# Altium schematic symbol library station_de_charge_SchLib.SchLib: 38 symbols
Pins are listed as number, name and electrical type; pins without a type are passive.

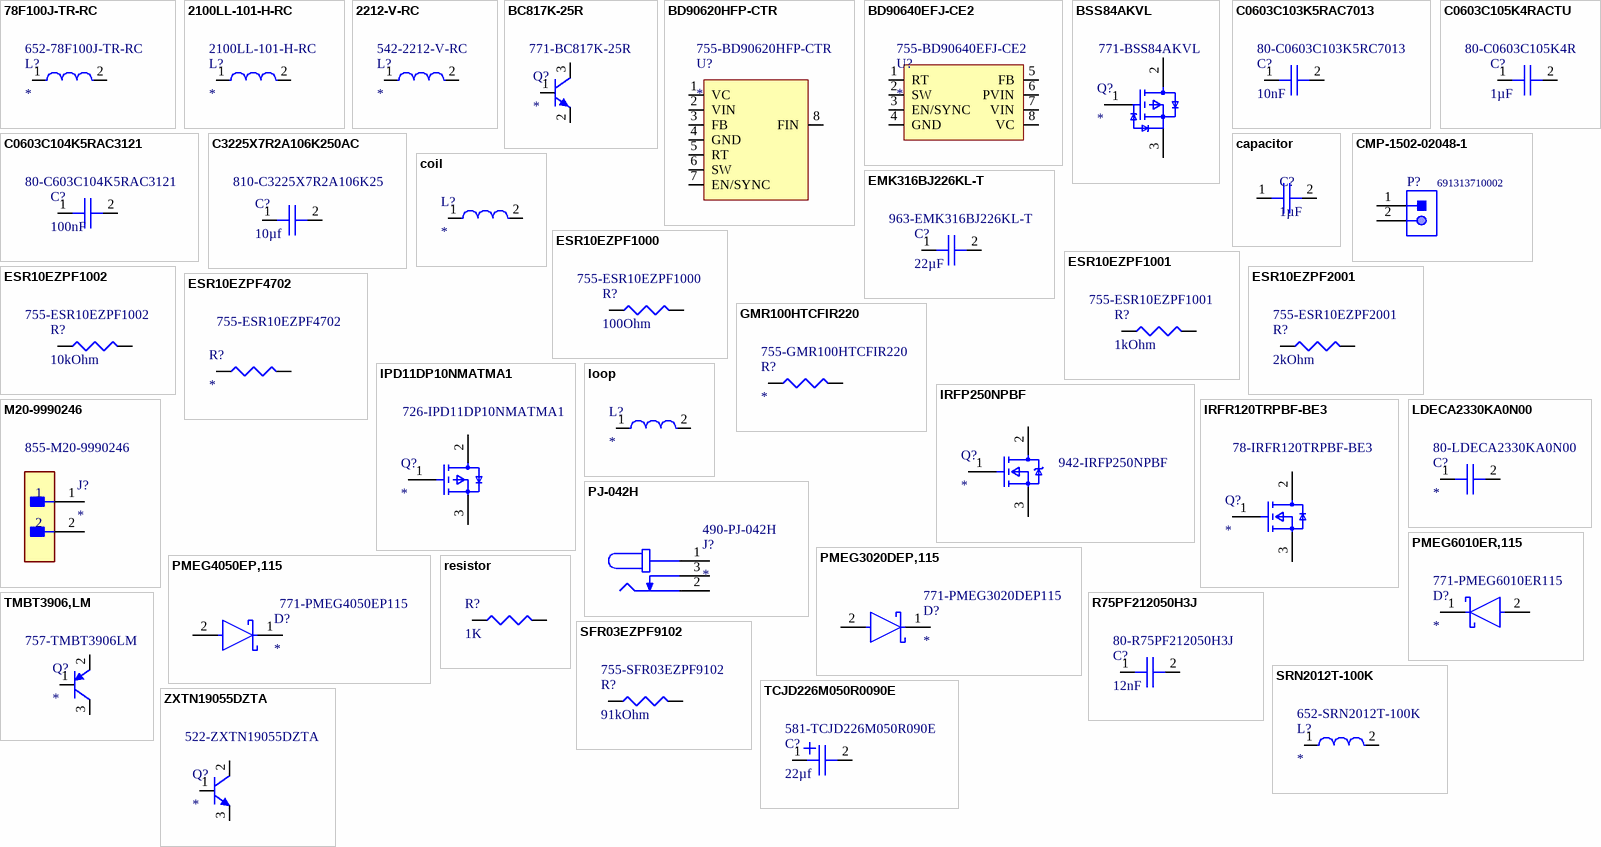
[diagram p0: symbols 78F100J-TR-RC to ZXTN19055DZTA]

## 78F100J-TR-RC
designator L?  Supplier Part Number 1: 652-78F100J-TR-RC
Ind RF Choke Bobbin Core 10uH 5% 7.9MHz 40Q-Factor Ferrite 370mA AXL T/R; Manufacturer: Bourns; Manufacturer Part Number: 78F100J-TR-RC; Shielding: Unshielded; DC Resistance (DCR): 750mR; Q Factor: 40; Lead/Base Style: Axial; Self Resonant Frequency: 18MHz; Lead Diameter: 0.51mm; Supplier 1: Mouser; RoHS: Yes; Category: Fixed Inductors; Stock 1: 31735; Pricing 1: 1=0,34000, 10=0,24500, 50=0,24500, 100=0,20000, 1000=0,14000, 10000=0,11800 (USD); Mount: Through Hole; Case/Package: Axial; Contact Plating: Tin; Core Material: Ferrite; Min Operating Temperature: -55°C; Max Operating Temperature: 105°C; Resistor Type: Wirewound; Inductance: 10uH; Test Frequency: 7.9MHz; Max DC Current: 370mA; Termination: Axial; DC Current: 370mA; Tolerance: 5%; Packaging: Tape and Reel; Package Quantity: 5000; Current Rating: 370mA; Diameter: 2.79mm; Length: 7.11mm; Radiation Hardening: No; Military Standard: Not; ComponentLink1URL: https://datasheet.ciiva.com/15161/getdatasheetpartid-486343-15161381.pdf?src-supplier=Verical; ComponentLink1Description: https://datasheet.ciiva.com/15161/getdatasheetpartid-486343-15161381.pdf?src-supplier=Verical; ComponentLink2URL: https://datasheet.ciiva.com/6703/78f-series-6703431.pdf?src-supplier=Digi-Key; ComponentLink2Description: https://datasheet.ciiva.com/6703/78f-series-6703431.pdf?src-supplier=Digi-Key
pins: 1, 2

## 2100LL-101-H-RC
designator L?  Supplier Part Number 1: 2100LL-101-H-RC
Inductor High Current Toroid 100uH/46.2uH 15% 1KHz 4.3A 0.036Ohm DCR RDL; Manufacturer: Bourns JW Miller; Shielding: Unshielded; Inductance: 100uH; DC Resistance (DCR): 36mR; Lead/Base Style: Radial; Lead Length: 12.7mm; Supplier 1: Arrow Electronics; Manufacturer Part Number: 2100LL-101-H-RC; RoHS: Yes; Category: Fixed Inductors; Stock 1: 7; Pricing 1: 1=3,04520, 10=2,91760, 25=2,65420, 100=2,31960, 288=2,30000, 576=2,21150, 1008=1,97340, 2592=1,92170, 5040=1,89520 (USD); Mount: Through Hole; Case/Package: Radial; Contact Plating: Tin; Min Operating Temperature: -55°C; Max Operating Temperature: 125°C; Inductance Tolerance: 15%; Package Quantity: 144; Packaging: Bulk; Tolerance: 15%; Current Rating: 4.3A; Max DC Current: 4.3A; Termination: Radial; Test Frequency: 1kHz; DC Current: 4.3A; RMS Current (Irms): 4.3A; Series: 2100LL; Width: 0.45inch; Height: 0.45inch; Lead Pitch: 19.3mm; Radiation Hardening: No; REACH SVHC: No SVHC; Military Standard: Not; Lead Free: Lead Free; RoHS Compliant: Yes; ComponentLink1URL: https://datasheet.ciiva.com/1132/1482709-1132517.pdf?src-supplier=Newark; ComponentLink1Description: https://datasheet.ciiva.com/1132/1482709-1132517.pdf?src-supplier=Newark; ComponentLink2URL: https://datasheet.ciiva.com/6710/2100ll-series-6710280.pdf?src-supplier=Digi-Key; ComponentLink2Description: https://datasheet.ciiva.com/6710/2100ll-series-6710280.pdf?src-supplier=Digi-Key
pins: 1, 2

## 2212-V-RC
designator L?  Supplier Part Number 1: 542-2212-V-RC
Inductor High Current Toroid 100uH/64uH 15% 1KHz 4.4A 56mOhm DCR RDL; Manufacturer: Bourns JW Miller; Manufacturer Part Number: 2212-V-RC; Core Material: Ferrite; Lead/Base Style: Radial; Inductance: 100uH; Shielding: Shielded; DC Resistance (DCR): 56mR; Lead Diameter: 0.86mm; Supplier 1: Mouser; RoHS: Yes; Category: Fixed Inductors; Stock 1: 1501; Pricing 1: 1=4,88000, 10=4,48000, 50=3,72000, 100=2,93000, 1000=2,93000, 10000=2,93000 (USD); Mount: Through Hole,Radial; Case/Package: Radial; Number of Pins: 2; Contact Plating: Tin; Min Operating Temperature: -55°C; Max Operating Temperature: 105°C; Tolerance: 15%; Test Frequency: 1kHz; Inductance Tolerance: 15%; Current Rating: 4.4A; Package Quantity: 77; Packaging: Bulk; Max DC Current: 4.4A; Termination: Radial; DC Current: 4.4A; RMS Current (Irms): 4.4A; Series: 2200; Diameter: 0.95inch; Width: 0.55inch; Lead Pitch: 11.176mm; Height - Seated (Max): 0.55inch; Depth: 13.97mm; Radiation Hardening: No; REACH SVHC: No SVHC; Military Standard: Not; Lead Free: Lead Free; RoHS Compliant: Yes; ComponentLink1URL: https://datasheet.ciiva.com/11798/0900766b80fa5688-11798051.pdf?src-supplier=RSComponents; ComponentLink1Description: https://datasheet.ciiva.com/11798/0900766b80fa5688-11798051.pdf?src-supplier=RSComponents; ComponentLink2URL: https://datasheet.ciiva.com/6690/2200-series-6690646.pdf?src-supplier=Digi-Key; ComponentLink2Description: https://datasheet.ciiva.com/6690/2200-series-6690646.pdf?src-supplier=Digi-Key; ComponentLink3URL: https://datasheet.ciiva.com/28654/2200-series-28654982.pdf?src-supplier=Element14; ComponentLink3Description: https://datasheet.ciiva.com/28654/2200-series-28654982.pdf?src-supplier=Element14; ComponentLink4URL: https://datasheet.ciiva.com/3076/2200-series-3076522.pdf?src-supplier=Avnet; ComponentLink4Description: https://datasheet.ciiva.com/3076/2200-series-3076522.pdf?src-supplier=Avnet
footprint IND_HCTI-220-5.8
pins: 1, 2

## BC817K-25R
designator Q?  Supplier Part Number 1: 771-BC817K-25R
BC817K-25H/SOT23/TO-236AB; Manufacturer: Nexperia; Manufacturer Part Number: BC817K-25R; Supplier 1: Mouser; RoHS: No; Category: BJTs; Stock 1: 50401; Pricing 1: 1=0,24000, 10=0,19900, 50=0,19900, 100=0,10600, 1000=0,04800, 10000=0,03100 (USD); RoHS Compliant: Yes
footprint SOT95P230X110-3N
pins: 1 B, 2 E, 3 C

## BD90620HFP-CTR
designator U?  Supplier Part Number 1: 755-BD90620HFP-CTR
Switching Regulator Step Down Single Channel 2.5A 600KHz 0.8V to 36V Adjustable 7-Pin HRP Emboss T/R; Manufacturer: Rohm; Manufacturer Part Number: BD90620HFP-CTR; Output Configuration: Positive; Number of Outputs: 1; Min Input Voltage: 5V; Min Output Voltage: 800mV; Switching Frequency: 500kHz; Synchronous Rectifier: No; Supplier 1: Mouser; RoHS: Yes; Category: Voltage Regulators - Switching; Stock 1: 52; Pricing 1: 1=3,82000, 10=3,43000, 50=3,25000, 100=2,81000, 1000=2,04000, 10000=2,03000 (USD); Mount: Surface Mount; Case/Package: TO-263-8; Min Operating Temperature: -40°C; Max Operating Temperature: 125°C; Output Type: Adjustable; Packaging: Tape and Reel; Max Input Voltage: 36V; Max Output Voltage: 36V; Output Current: 2.5A; RoHS Compliant: Yes; ComponentLink1URL: http://rohmfs.rohm.com/en/products/databook/datasheet/ic/power/switching_regulator/bd906xxefj-c-e.pdf?src-supplier=Digi-Key; ComponentLink1Description: http://rohmfs.rohm.com/en/products/databook/datasheet/ic/power/switching_regulator/bd906xxefj-c-e.pdf?src-supplier=Digi-Key
footprint IC_BTN7960B
pins: 1 VC, 2 VIN, 3 FB, 4 GND, 5 RT, 6 SW, 7 EN/SYNC, 8 FIN

## BD90640EFJ-CE2
designator U?  Supplier Part Number 1: 755-BD90640EFJ-CE2
Conv DC-DC 3.5V to 36V Step Down Single-Out 0.8V to 36V Automotive 8-Pin HTSOP-J EP T/R; Manufacturer: Rohm; Manufacturer Part Number: BD90640EFJ-CE2; Number of Outputs: 1; Max Output Current: 4A; Switching Frequency: 600kHz; Supplier 1: Mouser; RoHS: Yes; Category: Voltage Regulators - Switching; Stock 1: 447; Pricing 1: 1=2,33000, 10=2,10000, 25=1,98000, 50=1,98000, 100=1,69000, 250=1,58000, 500=1,39000, 1000=1,28000, 2500=1,27000, 10000=1,27000 (USD); Mount: Surface Mount; Number of Pins: 8; Min Operating Temperature: -40°C; Max Operating Temperature: 125°C; Output Voltage: 36V; Min Input Voltage: 3.5V; Max Input Voltage: 36V; Operating Supply Voltage: 36V; RoHS Compliant: Yes; ComponentLink1URL: http://rohmfs.rohm.com/en/products/databook/datasheet/ic/power/switching_regulator/bd906xxefj-c-e.pdf?src-supplier=Avnet; ComponentLink1Description: http://rohmfs.rohm.com/en/products/databook/datasheet/ic/power/switching_regulator/bd906xxefj-c-e.pdf?src-supplier=Avnet
pins: 1 RT, 2 SW, 3 EN/SYNC, 4 GND, 5 FB, 6 PVIN, 7 VIN, 8 VC

## BSS84AKVL
designator Q?  Supplier Part Number 1: 771-BSS84AKVL
BSS84AKV/SOT666/SOT6; Manufacturer: Nexperia; Manufacturer Part Number: BSS84AKVL; Supplier 1: Mouser; RoHS: Yes; Stock 1: 4944; Pricing 1: 1=0,24000, 10=0,20200, 50=0,20200, 100=0,10800, 500=0,07100, 1000=0,04800, 2500=0,03800, 10000=0,03100 (USD); RoHS Compliant: Yes
footprint SOT95P230X110-3N
pins: 1 GATE, 2 DRAIN, 3 SOURCE

## C0603C103K5RAC7013
designator C?, comment 10nF  Supplier Part Number 1: 80-C0603C103K5RC7013
Cap Ceramic 0.01uF 50V X7R 10% Pad SMD 0603 125C T/R; Manufacturer: KEMET; Manufacturer Part Number: C0603C103K5RAC7013; Supplier 1: Mouser; RoHS: Yes; Category: Ceramic Capacitors; Stock 1: 21368; Pricing 1: 1=0,13000, 10=0,05100, 50=0,05100, 100=0,04300, 500=0,03000, 1000=0,02500, 2000=0,02300, 4000=0,02000, 10000=0,02000 (USD); Mount: Surface Mount; Case/Package: 0603; Dielectric Material: Ceramic; Min Operating Temperature: -55°C; Max Operating Temperature: 125°C; Dielectric: X7R; Capacitance: 10nF; Tolerance: 10%; Voltage Rating (DC): 50V; Packaging: Tape and Reel; Package Quantity: 4000; Voltage Rating: 50V; Length: 1.6mm; Width: 0.031inch; Height: 0.8mm; Depth: 0.8mm; Thickness: 0.035inch; Radiation Hardening: No; ComponentLink1URL: http://components.arrow.com/part/dataview/5297356S5600630N7429?src-supplier=Arrow+Electronics; ComponentLink1Description: http://components.arrow.com/part/dataview/5297356S5600630N7429?src-supplier=Arrow+Electronics; ComponentLink2URL: https://www.distrelec.biz/Web/Downloads/_t/ds/KEM_C1002_X7R_SMD_eng_tds.pdf?mime=application%2Fpdf&src-supplier=Distrelec; ComponentLink2Description: https://www.distrelec.biz/Web/Downloads/_t/ds/KEM_C1002_X7R_SMD_eng_tds.pdf?mime=application%2Fpdf&src-supplier=Distrelec; ComponentLink3URL: https://api.kemet.com/component-edge/download/datasheet/C0603C103K5RAC7013.pdf?src-supplier=Digi-Key; ComponentLink3Description: https://api.kemet.com/component-edge/download/datasheet/C0603C103K5RAC7013.pdf?src-supplier=Digi-Key
footprint FP-C0603C104K5RAC3121-IPC_A
pins: 1, 2

## C0603C104K5RAC3121
designator C?, comment 100nF  Supplier Part Number 1: 80-C603C104K5RAC3121
Cap Ceramic 0.1uF 50V X7R 10% Pad SMD 0603 125°C T/R; Manufacturer: KEMET; Manufacturer Part Number: C0603C104K5RAC3121; RoHS: Yes; Category: Ceramic Capacitors; Stock 1: 3306727; Pricing 1: 1=0,13000, 10=0,09200, 50=0,09200, 100=0,04300, 1000=0,02500, 10000=0,01900 (USD); Case/Package: 0603; RoHS Compliant: Yes; Supplier 1: Mouser
footprint FP-C0603C104K5RAC3121-IPC_A
pins: 1, 2

## C0603C105K4RACTU
designator C?, comment 1µF  Supplier Part Number 1: 80-C0603C105K4R
Cap Ceramic 1uF 16V X7R 10% SMD 0603 125°C Paper T/R; Manufacturer: KEMET; Manufacturer Part Number: C0603C105K4RACTU; Dissipation Factor: 3.5%; RoHS: Yes; Category: Ceramic Capacitors; Stock 1: 3280807; Pricing 1: 1=0,17000, 10=0,08000, 50=0,08000, 100=0,03600, 500=0,02600, 1000=0,02000, 2000=0,01900, 4000=0,01600, 8000=0,01400, 10000=0,01400 (USD); Mount: Surface Mount,PCB; Case/Package: 0603; Number of Pins: 2; Case Code (Metric): 1608; Case Code (Imperial): 0603; Contact Plating: Tin,Matte; Dielectric Material: Ceramic; Min Operating Temperature: -55°C; Max Operating Temperature: 125°C; Package Quantity: 4000; Capacitance: 1uF; Voltage Rating: 16V; Tolerance: 10%; Packaging: Tape and Reel; Voltage Rating (DC): 16V; Dielectric: X7R; Termination: SMD/SMT; Voltage: 16V; Series: C0603C; Construction: Flat; Length: 1.6mm; Width: 0.031inch; Height: 0.8mm; Thickness: 0.034inch; Depth: 0.8mm; Radiation Hardening: No; REACH SVHC: No SVHC; RoHS Compliant: Yes; ComponentLink1URL: https://datasheet.ciiva.com/7823/kem-c1002-x7r-smd-7823997.pdf?src-supplier=Element14; ComponentLink1Description: https://datasheet.ciiva.com/7823/kem-c1002-x7r-smd-7823997.pdf?src-supplier=Element14; ComponentLink2URL: https://datasheet.ciiva.com/22749/kem-c1002-x7r-smd-22749721.pdf?src-supplier=Element14; ComponentLink2Description: https://datasheet.ciiva.com/22749/kem-c1002-x7r-smd-22749721.pdf?src-supplier=Element14; ComponentLink3URL: https://datasheet.ciiva.com/5419/kem-c1002-x7r-smd-5419750.pdf?src-supplier=Mouser; ComponentLink3Description: https://datasheet.ciiva.com/5419/kem-c1002-x7r-smd-5419750.pdf?src-supplier=Mouser; ComponentLink4URL: https://datasheet.ciiva.com/18192/getdatasheetpartid-385479-18192732.pdf?src-supplier=Verical; ComponentLink4Description: https://datasheet.ciiva.com/18192/getdatasheetpartid-385479-18192732.pdf?src-supplier=Verical; Supplier 1: Mouser
footprint CAPC1608X90X35NL15T15 (Chip Capacitor, 2-Leads, Body 1.60x0.81mm, IPC Medium Density)
pins: 1, 2

## C3225X7R2A106K250AC
designator C?, comment 10µf  Supplier Part Number 1: 810-C3225X7R2A106K25
Multilayer Ceramic Chip Capacitors, Capacitance=10μF, LxWxT: 3.2x2.5x2.5mm; Manufacturer: TDK; Manufacturer Part Number: C3225X7R2A106K250AC; Supplier 1: Mouser; RoHS: No; Stock 1: 11549; Pricing 1: 1=1,50000, 10=1,19000, 50=1,19000, 100=0,89100, 1000=0,72000, 10000=0,72000 (USD)
footprint CAPC3225X280N
pins: 1, 2

## capacitor
designator C?, comment 1µF
pins: 1, 2

## CMP-1502-02048-1
designator P?, comment 691313710002
Serie 3137 - 5.00mm Close Horizontal PCB Header WR-TBL, 2 pin; Manufacturer: Wurth Elektronik; Gender: Male; Pin Number: 2; Operating Temperature: -40to105degC; Manufacturer URL: http://www.we-online.de; Mounting Technology: THT; Package Reference: 691313710002; Part Number: 691313710002; Publisher: WurthElektronik; Packaging: Box; Datasheet URL: http://katalog.we-online.de/em/datasheet/6913137100xx.pdf; Pitch: 5.00mm
footprint 691313710002 (5.00mm - Closed Horizhontal PCB Header - -02p)
pins: 1, 2

## coil
designator L?
pins: 1, 2

## EMK316BJ226KL-T
designator C?, comment 22µF  Supplier Part Number 1: 963-EMK316BJ226KL-T
Cap Ceramic 22uF 16V X7R 10% SMD 0805 125°C Paper T/R; Manufacturer: Taiyo Yuden; Manufacturer Part Number: EMK316BJ226KL-T; Dielectric: X5R; RoHS: Yes; Category: Ceramic Capacitors; Stock 1: 61956; Pricing 1: 1=0,47000, 10=0,34700, 50=0,34700, 100=0,24600, 1000=0,17300, 10000=0,15000 (USD); Mount: Surface Mount; Case/Package: 1206; Case Code (Imperial): 1206; Case Code (Metric): 3216; Min Operating Temperature: -55°C; Max Operating Temperature: 85°C; Tolerance: 10%; Packaging: Tape and Reel; Voltage Rating: 16V; Capacitance: 22uF; Voltage Rating (DC): 16V; Package Quantity: 2000; Termination: SMD/SMT; Resistor Type: Ceramic; Series: M; Construction: Flat; Length: 0.126inch; Width: 1.6mm; Height: 1.6mm; Thickness: 0.071inch; RoHS Compliant: Yes; ComponentLink1URL: https://datasheet.ciiva.com/30123/emultilayer-ceramic-capacitor-30123646.pdf?src-supplier=Onlinecomponents.com; ComponentLink1Description: https://datasheet.ciiva.com/30123/emultilayer-ceramic-capacitor-30123646.pdf?src-supplier=Onlinecomponents.com; Supplier 1: Mouser
footprint CAPC3216X180N
pins: 1, 2

## ESR10EZPF1000
designator R?, comment 100Ohm  Supplier Part Number 1: 755-ESR10EZPF1000
Res Thick Film 0805 100 Ohm 1% 2/5W ±100ppm/°C Molded SMD Paper T/R; Manufacturer: Rohm; Manufacturer Part Number: ESR10EZPF1000; Resistance: 100R; Max Power Dissipation: 400mW; RoHS: Yes; Category: Chip SMD Resistors; Stock 1: 17116; Pricing 1: 1=0,18000, 10=0,15300, 50=0,15300, 100=0,06000, 1000=0,02600, 10000=0,02000 (USD); Case/Package: 0805; Case Code (Imperial): 0805; Case Code (Metric): 2012; Min Operating Temperature: -55°C; Max Operating Temperature: 155°C; Resistor Type: Thick Film; Packaging: Tape and Reel; Tolerance: 1%; Temperature Coefficient: 100ppm/°C; Features: Automotive AEC-Q200; Number of Terminations: 2; Series: ESR; RoHS Compliant: Yes; ComponentLink1URL: http://www.farnell.com/datasheets/2611941.pdf?src-supplier=Farnell; ComponentLink1Description: http://www.farnell.com/datasheets/2611941.pdf?src-supplier=Farnell; ComponentLink2URL: https://www.rohm.com/datasheet/ESR01MZPF/esr-e?src-supplier=Digi-Key; ComponentLink2Description: https://www.rohm.com/datasheet/ESR01MZPF/esr-e?src-supplier=Digi-Key; ComponentLink3URL: http://www.farnell.com/datasheets/2611941.pdf?src-supplier=Newark; ComponentLink3Description: http://www.farnell.com/datasheets/2611941.pdf?src-supplier=Newark; ComponentLink4URL: http://rohmfs.rohm.com/en/products/databook/datasheet/passive/resistor/chip_resistor/esr.pdf?src-supplier=Avnet; ComponentLink4Description: http://rohmfs.rohm.com/en/products/databook/datasheet/passive/resistor/chip_resistor/esr.pdf?src-supplier=Avnet; Supplier 1: Mouser
footprint FP-ESR10-IPC_A
pins: 1, 2

## ESR10EZPF1001
designator R?, comment 1kOhm  Supplier Part Number 1: 755-ESR10EZPF1001
Res Thick Film 0805 1K Ohm 1% 0.4W ±100ppm/C Epoxy Resin Pad SMD Automotive T/R; Manufacturer: Rohm; Manufacturer Part Number: ESR10EZPF1001; Resistance: 1kR; Temperature Coefficient: 100ppm/°C; Power Rating: 400mW; RoHS: Yes; Category: Chip SMD Resistors; Stock 1: 27313; Pricing 1: 1=0,18000, 10=0,15300, 50=0,15300, 100=0,06000, 1000=0,02600, 10000=0,02000 (USD); Case/Package: 0805; Case Code (Metric): 2012; Case Code (Imperial): 0805; Size Code: 0805; Min Operating Temperature: -55°C; Max Operating Temperature: 155°C; Tolerance: 1%; Packaging: Tape and Reel; Resistor Type: Thick Film; Package Quantity: 1; Number of Terminations: 2; Max Power Dissipation: 400mW; Features: Automotive AEC-Q200; Series: ESR; Length: 0.079inch; Width: 0.049inch; Height: 0.026inch; Lead Free: Lead Free; RoHS Compliant: Yes; ComponentLink1URL: https://datasheet.ciiva.com/2470/esr-2470004.pdf?src-supplier=Digi-Key; ComponentLink1Description: https://datasheet.ciiva.com/2470/esr-2470004.pdf?src-supplier=Digi-Key; ComponentLink2URL: https://datasheet.ciiva.com/2470/esr-2470005.pdf?src-supplier=Digi-Key; ComponentLink2Description: https://datasheet.ciiva.com/2470/esr-2470005.pdf?src-supplier=Digi-Key; ComponentLink3URL: https://datasheet.ciiva.com/2470/esr-2470003.pdf?src-supplier=Digi-Key; ComponentLink3Description: https://datasheet.ciiva.com/2470/esr-2470003.pdf?src-supplier=Digi-Key; Supplier 1: Mouser
footprint FP-ESR10-IPC_A
pins: 1, 2

## ESR10EZPF1002
designator R?, comment 10kOhm  Supplier Part Number 1: 755-ESR10EZPF1002
Res Thick Film 0805 10K Ohm 1% 0.4W ±100ppm/C Pad SMD Automotive T/R; Manufacturer: Rohm; Manufacturer Part Number: ESR10EZPF1002; Resistance: 10kR; Max Power Dissipation: 400mW; Temperature Coefficient: 100ppm/°C; RoHS: Yes; Category: Chip SMD Resistors; Stock 1: 82018; Pricing 1: 1=0,18000, 10=0,15300, 50=0,15300, 100=0,06000, 1000=0,02600, 2500=0,02300, 5000=0,02000, 10000=0,02000 (USD); Case/Package: 0805; Case Code (Metric): 2012; Case Code (Imperial): 0805; Min Operating Temperature: -55°C; Max Operating Temperature: 155°C; Package Quantity: 1; Tolerance: 1%; Packaging: Tape and Reel; Resistor Type: Thick Film; Number of Terminations: 2; Features: Automotive AEC-Q200; Series: ESR; Length: 0.079inch; Width: 0.049inch; Height: 0.026inch; RoHS Compliant: Yes; ComponentLink1URL: https://datasheet.ciiva.com/2469/esr-2469862.pdf?src-supplier=Digi-Key; ComponentLink1Description: https://datasheet.ciiva.com/2469/esr-2469862.pdf?src-supplier=Digi-Key; ComponentLink2URL: https://datasheet.ciiva.com/2469/esr-2469863.pdf?src-supplier=Digi-Key; ComponentLink2Description: https://datasheet.ciiva.com/2469/esr-2469863.pdf?src-supplier=Digi-Key; ComponentLink3URL: https://datasheet.ciiva.com/2469/esr-2469864.pdf?src-supplier=Digi-Key; ComponentLink3Description: https://datasheet.ciiva.com/2469/esr-2469864.pdf?src-supplier=Digi-Key; Supplier 1: Mouser
footprint FP-ESR10-IPC_A
pins: 1, 2

## ESR10EZPF2001
designator R?, comment 2kOhm  Supplier Part Number 1: 755-ESR10EZPF2001
Res Thick Film 0805 2K Ohm 1% 2/5W ±100ppm/°C Molded SMD Paper T/R; Manufacturer: Rohm; Manufacturer Part Number: ESR10EZPF2001; Resistance: 2kR; Power Rating: 400mW; Supplier 1: Mouser; RoHS: Yes; Category: Chip SMD Resistors; Stock 1: 82201; Pricing 1: 1=0,18000, 10=0,15300, 50=0,15300, 100=0,06000, 1000=0,02600, 10000=0,02000 (USD); Case/Package: 0805; Case Code (Metric): 2012; Case Code (Imperial): 0805; Size Code: 0805; Tolerance: 1%; Packaging: Tape and Reel; Resistor Type: Thick Film; Temperature Coefficient: 100ppm/°C; Package Quantity: 5000; Number of Terminations: 2; Max Power Dissipation: 400mW; Series: ESR10; Length: 0.079inch; Width: 0.049inch; Height: 0.026inch; Lead Free: Lead Free; RoHS Compliant: Yes; ComponentLink1URL: http://www1.futureelectronics.com/doc/ROHM%20SEMICONDUCTOR/ESR10EZPD.pdf?src-supplier=Future+Electronics; ComponentLink1Description: http://www1.futureelectronics.com/doc/ROHM%20SEMICONDUCTOR/ESR10EZPD.pdf?src-supplier=Future+Electronics; ComponentLink2URL: https://www.rohm.com/datasheet/ESR01MZPF/esr-e?src-supplier=Digi-Key; ComponentLink2Description: https://www.rohm.com/datasheet/ESR01MZPF/esr-e?src-supplier=Digi-Key; ComponentLink3URL: http://www.rohm.com/web/global/datasheet/ESR01MZPF/esr-e?src-supplier=Digi-Key; ComponentLink3Description: http://www.rohm.com/web/global/datasheet/ESR01MZPF/esr-e?src-supplier=Digi-Key; ComponentLink4URL: http://rohmfs.rohm.com/en/products/databook/datasheet/passive/resistor/chip_resistor/esr.pdf?src-supplier=Avnet; ComponentLink4Description: http://rohmfs.rohm.com/en/products/databook/datasheet/passive/resistor/chip_resistor/esr.pdf?src-supplier=Avnet
footprint FP-ESR10-IPC_A
pins: 1, 2

## ESR10EZPF4702
designator R?  Supplier Part Number 1: 755-ESR10EZPF4702
Res Thick Film 0805 47K Ohm 1% 0.4W ±100ppm/C Pad SMD Automotive T/R; Manufacturer: Rohm; Manufacturer Part Number: ESR10EZPF4702; Resistance: 47kR; Temperature Coefficient: 100ppm/°C; Max Power Dissipation: 400mW; Supplier 1: Mouser; RoHS: Yes; Category: Chip SMD Resistors; Stock 1: 31570; Pricing 1: 1=0,18000, 10=0,15300, 50=0,15300, 100=0,06000, 1000=0,02600, 2500=0,02300, 5000=0,02000, 10000=0,02000 (USD); Case/Package: 0805; Case Code (Metric): 2012; Case Code (Imperial): 0805; Min Operating Temperature: -55°C; Max Operating Temperature: 155°C; Tolerance: 1%; Packaging: Tape and Reel; Resistor Type: Thick Film; Package Quantity: 1; Number of Terminations: 2; Features: Automotive AEC-Q200; Series: ESR; Length: 0.079inch; Width: 0.049inch; Height: 0.026inch; RoHS Compliant: Yes; ComponentLink1URL: https://datasheet.ciiva.com/2469/esr-2469981.pdf?src-supplier=Digi-Key; ComponentLink1Description: https://datasheet.ciiva.com/2469/esr-2469981.pdf?src-supplier=Digi-Key; ComponentLink2URL: https://datasheet.ciiva.com/2469/esr-2469979.pdf?src-supplier=Digi-Key; ComponentLink2Description: https://datasheet.ciiva.com/2469/esr-2469979.pdf?src-supplier=Digi-Key; ComponentLink3URL: https://datasheet.ciiva.com/2469/esr-2469980.pdf?src-supplier=Digi-Key; ComponentLink3Description: https://datasheet.ciiva.com/2469/esr-2469980.pdf?src-supplier=Digi-Key
footprint FP-ESR10-IPC_A
pins: 1, 2

## GMR100HTCFIR220
designator R?  Supplier Part Number 1: 755-GMR100HTCFIR220
Res Current Sense Metal Plate 2512 0.1 Ohm 1% 3W ±20ppm/°C Molded Emboss T/R; Manufacturer: Rohm; Manufacturer Part Number: GMR100HTCFIR220; Resistance: 220mR; Supplier 1: Mouser; RoHS: No; Category: Chip SMD Resistors; Stock 1: 10040; Pricing 1: 1=1,30000, 10=1,16000, 50=1,05000, 100=1,05000, 1000=1,05000, 10000=1,05000 (USD); Case/Package: 2512; Case Code (Imperial): 2512; Case Code (Metric): 6432; Min Operating Temperature: -55°C; Max Operating Temperature: 170°C; Resistor Type: Metal Element; Features: Automotive AEC-Q200; Packaging: Tape and Reel; Tolerance: 1%; Max Power Dissipation: 3W; Temperature Coefficient: 20ppm/°C; Number of Terminations: 2; ComponentLink1URL: http://www.farnell.com/datasheets/2372626.pdf?src-supplier=Farnell; ComponentLink1Description: http://www.farnell.com/datasheets/2372626.pdf?src-supplier=Farnell; ComponentLink2URL: http://rohmfs.rohm.com/en/products/databook/datasheet/passive/resistor/chip_resistor/gmr-e.pdf?src-supplier=Digi-Key; ComponentLink2Description: http://rohmfs.rohm.com/en/products/databook/datasheet/passive/resistor/chip_resistor/gmr-e.pdf?src-supplier=Digi-Key; ComponentLink3URL: http://www.farnell.com/datasheets/2372626.pdf?src-supplier=Newark; ComponentLink3Description: http://www.farnell.com/datasheets/2372626.pdf?src-supplier=Newark
footprint RESC6432X55N
pins: 1, 2

## IPD11DP10NMATMA1
designator Q?  Supplier Part Number 1: 726-IPD11DP10NMATMA1
Mosfet, P-ch, 100V, TO-252-3 Rohs Compliant: Yes; Manufacturer: Infineon; Manufacturer Part Number: IPD11DP10NMATMA1; Supplier 1: Mouser; RoHS: No; Category: Uncategorized; Stock 1: 2351; Pricing 1: 1=2,01000, 10=1,81000, 50=1,81000, 100=1,46000, 1000=1,14000, 10000=1,13000 (USD)
footprint FP-IPD11DP10NM (D-PAK, 3-Pads, Body 6,21x6,73mm (max), IPC Medium Density)
pins: 1 GATE, 2 DRAIN, 3 SOURCE

## IRFP250NPBF
designator Q?  Supplier Part Number 1: 942-IRFP250NPBF
MOSFET N-CH 200V 30A TO-247AC; Manufacturer: Infineon; Manufacturer Part Number: IRFP250NPBF; Max Power Dissipation: 214W; Drain to Source Resistance: 75mR; Gate to Source Voltage (Vgs): 20V; Input Capacitance: 2.159nF; Element Configuration: Single; Turn-Off Delay Time: 41ns; Turn-On Delay Time: 14ns; Supplier 1: Mouser; RoHS: Yes; Category: MOSFETs; Stock 1: 31; Pricing 1: 1=2,88000, 10=2,60000, 50=2,60000, 100=2,08000, 400=1,71000, 1000=1,71000, 1200=1,62000, 10000=1,62000 (USD); Mount: Through Hole; Case/Package: TO-247; Number of Pins: 3; Min Operating Temperature: -55°C; Max Operating Temperature: 175°C; Drain to Source Voltage (Vdss): 200V; Continuous Drain Current (ID): 30A; Power Dissipation: 214W; Packaging: Bulk; Drain to Source Breakdown Voltage: 200V; Rds On Max: 75mR; Max Dual Supply Voltage: 200V; Length: 0.625inch; Width: 0.209inch; Height: 0.799inch; Lead Free: Lead Free; RoHS Compliant: Yes; Halogen Free: Not Halogen Free; ComponentLink1URL: https://www.alliedelec.com/m/d/21c289411064e2a3b99001199a3c91bd.pdf?src-supplier=Allied+Electronics; ComponentLink1Description: https://www.alliedelec.com/m/d/21c289411064e2a3b99001199a3c91bd.pdf?src-supplier=Allied+Electronics; ComponentLink2URL: http://www.farnell.com/datasheets/1751767.pdf?src-supplier=Farnell; ComponentLink2Description: http://www.farnell.com/datasheets/1751767.pdf?src-supplier=Farnell; ComponentLink3URL: https://www.infineon.com/dgdl/irfp250npbf.pdf?fileId=5546d462533600a4015356288b8b1fde&src-supplier=Digi-Key; ComponentLink3Description: https://www.infineon.com/dgdl/irfp250npbf.pdf?fileId=5546d462533600a4015356288b8b1fde&src-supplier=Digi-Key
footprint FP-PG-TO247-3-MFG
pins: 1 GATE, 2 DRAIN, 3 SOURCE

## IRFR120TRPBF-BE3
designator Q?  Supplier Part Number 1: 78-IRFR120TRPBF-BE3
Manufacturer: Vishay Siliconix; Manufacturer Part Number: IRFR120TRPBF-BE3; Supplier 1: Mouser; RoHS: Yes; Stock 1: 3186; Pricing 1: 1=1,41000, 10=1,27000, 50=1,27000, 100=0,98800, 500=0,81600, 1000=0,64400, 2000=0,60400, 10000=0,60400 (USD)
footprint FP-IRFR120TRPBF-BE3 (D-PAK, 3-Pads, Body 6,21x6,73mm (max), IPC Medium Density)
pins: 1 GATE, 2 DRAIN, 3 SOURCE

## LDECA2330KA0N00
designator C?  Supplier Part Number 1: 80-LDECA2330KA0N00
Cap Film 0.033uF 50V PEN 10% (3.3 X 1.7 X 1.2mm) Stacked 125C Automotive T/R; Manufacturer: KEMET; Manufacturer Part Number: LDECA2330KA0N00; Dielectric Material: Polyester; Capacitance: 33nF; Voltage Rating (AC): 40V; Supplier 1: Mouser; RoHS: Yes; Category: Film Capacitors; Stock 1: 5225; Pricing 1: 1=1,01000, 10=0,80400, 50=0,69700, 100=0,60300, 1000=0,40200, 10000=0,36100 (USD); Mount: Surface Mount; Case/Package: 1206; Case Code (Metric): 3216; Case Code (Imperial): 1206; Min Operating Temperature: -55°C; Max Operating Temperature: 125°C; Tolerance: 10%; Packaging: Cut Tape; Voltage Rating (DC): 50V; Termination: Solder; Voltage Rating: 50V; Features: High Temperature; Series: LDE; Length: 3.3mm; Width: 0.067inch; Depth: 1.7mm; Height - Seated (Max): 0.043inch; Radiation Hardening: No; REACH SVHC: No SVHC; RoHS Compliant: Yes; ComponentLink1URL: http://www.farnell.com/datasheets/1959645.pdf?src-supplier=Farnell; ComponentLink1Description: http://www.farnell.com/datasheets/1959645.pdf?src-supplier=Farnell; ComponentLink2URL: http://www.farnell.com/datasheets/1959645.pdf?src-supplier=Element14; ComponentLink2Description: http://www.farnell.com/datasheets/1959645.pdf?src-supplier=Element14; ComponentLink3URL: http://www.kemet.com/docfinder?Partnumber=LDE&src-supplier=Digi-Key; ComponentLink3Description: http://www.kemet.com/docfinder?Partnumber=LDE&src-supplier=Digi-Key
footprint FP-LDECA2330KA0N00 (Chip Capacitor, 2-Leads, Body 3,40x1,70mm, IPC Medium Density)
pins: 1, 2

## loop
designator L?
footprint loop
pins: 1, 2

## M20-9990246
designator J?  Supplier Part Number 1: 855-M20-9990246
2.54mm (0.1") Pitch SIL Vertical PC Tail Pin Header, 6.1mm mating pin height, tin, 2 contacts; Manufacturer: Harwin; Manufacturer Part Number: M20-9990246; Number of Contacts: 2; Current Rating: 3A; Contact Resistance: 30mR; Gender: Male; Insulation Resistance: 10GR; Voltage Rating (AC): 750V; Connector Type: Male Pin; Supplier 1: Mouser; RoHS: Yes; Category: Headers and Wire Housings; Stock 1: 121083; Pricing 1: 1=0,17000, 10=0,08400, 50=0,08400, 100=0,07000, 500=0,06300, 1000=0,05400, 2000=0,04600, 10000=0,04500, 25000=0,03700, 50000=0,03500 (USD); Mount: Through Hole; Case/Package: SIL; Contact Plating: Tin; Color: Black; Contact Material: Brass,Bronze; Housing Color: Black; Housing Material: Nylon; Min Operating Temperature: -40°C; Max Operating Temperature: 105°C; Number of Rows: 1; Termination: Solder; Package Quantity: 1000; Packaging: Bulk; Max Current Rating: 3A; Number of Positions: 2; Orientation: Straight; Length: 5.08mm; Pitch: 2.54mm; Contact Mating Length: 0.24inch; Depth: 2.54mm; Radiation Hardening: No; REACH SVHC: No SVHC; ComponentLink1URL: https://datasheet.ciiva.com/8046/315376-8046930.pdf?src-supplier=Element14; ComponentLink1Description: https://datasheet.ciiva.com/8046/315376-8046930.pdf?src-supplier=Element14; ComponentLink2URL: https://datasheet.ciiva.com/11745/0900766b81034e61-11745755.pdf?src-supplier=RSComponents; ComponentLink2Description: https://datasheet.ciiva.com/11745/0900766b81034e61-11745755.pdf?src-supplier=RSComponents; ComponentLink3URL: https://datasheet.ciiva.com/22660/1830818-22660571.pdf?src-supplier=Element14; ComponentLink3Description: https://datasheet.ciiva.com/22660/1830818-22660571.pdf?src-supplier=Element14; ComponentLink4URL: https://datasheet.ciiva.com/6833/m20-999-6833368.pdf?src-supplier=Digi-Key; ComponentLink4Description: https://datasheet.ciiva.com/6833/m20-999-6833368.pdf?src-supplier=Digi-Key; ComponentLink5URL: https://datasheet.ciiva.com/26852/getdatasheetpartid-384170-26852203.pdf?src-supplier=Verical; ComponentLink5Description: https://datasheet.ciiva.com/26852/getdatasheetpartid-384170-26852203.pdf?src-supplier=Verical
footprint FP-M20-9990246-MFG
pins: 1, 2

## PJ-042H
designator J?  Supplier Part Number 1: 490-PJ-042H
1.65 x 5.15 mm, 5.0 A, Horizontal, Through Hole, Kinked Pins, Dc Power Jack Connector; Manufacturer: CUI Devices; Manufacturer Part Number: PJ-042H; Supplier 1: Mouser; RoHS: Yes; Category: Power Connectors; Stock 1: 5617; Pricing 1: 1=0,75000, 10=0,59500, 50=0,59500, 100=0,51800, 1000=0,41400, 10000=0,37000 (USD)
footprint CUI_PJ-042H
pins: 1, 2, 3

## PMEG3020DEP,115
designator D?  Supplier Part Number 1: 771-PMEG3020DEP115
DIODE SCHOTTKY 30V 2A SOD128; Manufacturer: Nexperia; Manufacturer Part Number: PMEG3020DEP,115; Supplier 1: Mouser; RoHS: Yes; Category: Rectifier Diodes; Stock 1: 8686; Pricing 1: 1=0,48000, 10=0,39300, 50=0,39300, 100=0,26800, 1000=0,15100, 10000=0,12900 (USD); RoHS Compliant: Yes; ComponentLink1URL: http://www.farnell.com/datasheets/1443384.pdf?src-supplier=Farnell; ComponentLink1Description: http://www.farnell.com/datasheets/1443384.pdf?src-supplier=Farnell; ComponentLink2URL: https://assets.nexperia.com/documents/data-sheet/PMEG3020DEP.pdf?src-supplier=Digi-Key; ComponentLink2Description: https://assets.nexperia.com/documents/data-sheet/PMEG3020DEP.pdf?src-supplier=Digi-Key
footprint FP-SOD128-MFG
pins: 1 C, 2 A

## PMEG4050EP,115
designator D?  Supplier Part Number 1: 771-PMEG4050EP115
DIODE SCHOTTKY 40V 5A SOD128; Manufacturer: Nexperia; Manufacturer Part Number: PMEG4050EP,115; Supplier 1: Mouser; RoHS: Yes; Category: Rectifier Diodes; Stock 1: 216619; Pricing 1: 1=0,55000, 10=0,47100, 50=0,47100, 100=0,35200, 1000=0,21400, 10000=0,17700 (USD); RoHS Compliant: Yes; ComponentLink1URL: http://www.farnell.com/datasheets/609330.pdf?src-supplier=Farnell; ComponentLink1Description: http://www.farnell.com/datasheets/609330.pdf?src-supplier=Farnell; ComponentLink2URL: http://www.farnell.com/datasheets/609330.pdf?src-supplier=Element14; ComponentLink2Description: http://www.farnell.com/datasheets/609330.pdf?src-supplier=Element14; ComponentLink3URL: https://www.mouser.com/ds/2/302/PMEG4050EP-1151641.pdf?src-supplier=Mouser; ComponentLink3Description: https://www.mouser.com/ds/2/302/PMEG4050EP-1151641.pdf?src-supplier=Mouser; ComponentLink4URL: http://www.farnell.com/datasheets/609330.pdf?src-supplier=Newark; ComponentLink4Description: http://www.farnell.com/datasheets/609330.pdf?src-supplier=Newark; ComponentLink5URL: https://assets.nexperia.com/documents/data-sheet/PMEG4050EP.pdf?src-supplier=Digi-Key; ComponentLink5Description: https://assets.nexperia.com/documents/data-sheet/PMEG4050EP.pdf?src-supplier=Digi-Key
footprint FP-SOD128-MFG
pins: 1 K, 2 A

## PMEG6010ER,115
designator D?  Supplier Part Number 1: 771-PMEG6010ER115
DIODE SCHOTTKY 60V 1A SOD123W; Manufacturer: Nexperia; Manufacturer Part Number: PMEG6010ER,115; Supplier 1: Mouser; RoHS: Yes; Category: Rectifier Diodes; Stock 1: 80739; Pricing 1: 1=0,44000, 10=0,33300, 50=0,33300, 100=0,20700, 500=0,14200, 1000=0,10900, 3000=0,09200, 9000=0,08400, 10000=0,08400, 24000=0,07800, 45000=0,07600 (USD); RoHS Compliant: Yes; ComponentLink1URL: http://www.farnell.com/datasheets/1383349.pdf?src-supplier=Farnell; ComponentLink1Description: http://www.farnell.com/datasheets/1383349.pdf?src-supplier=Farnell; ComponentLink2URL: https://assets.nexperia.com/documents/data-sheet/PMEG6010ER.pdf?src-supplier=Digi-Key; ComponentLink2Description: https://assets.nexperia.com/documents/data-sheet/PMEG6010ER.pdf?src-supplier=Digi-Key
footprint TVS_PTVS13VS1UR,115
pins: 1 C, 2 A

## R75PF212050H3J
designator C?, comment 12nF  Supplier Part Number 1: 80-R75PF212050H3J
Cap Film 0.012uF 630V PP 5% Molded Solder Pin 10mm 125°C Bulk; Manufacturer: KEMET; Manufacturer Part Number: R75PF212050H3J; Supplier 1: Mouser; RoHS: Yes; Category: Film Capacitors; Stock 1: 3328; Pricing 1: 1=0,55000, 10=0,39100, 50=0,29600, 100=0,25700, 1000=0,16200, 10000=0,15200 (USD)
footprint R75PF212050H3J
pins: 1, 2

## resistor
designator R?, comment 1K
pins: 1, 2

## SFR03EZPF9102
designator R?, comment 91kOhm  Supplier Part Number 1: 755-SFR03EZPF9102
Sulfur Tolerant Chip Resistors; Manufacturer: ROHM; Manufacturer Part Number: SFR03EZPF9102; Supplier 1: Mouser; Stock 1: 9900; Pricing 1: 1=0,11000, 10=0,09800, 50=0,09800, 100=0,03800, 1000=0,01700, 10000=0,01200 (USD)
footprint RESC1608X55N
pins: 1, 2

## SRN2012T-100K
designator L?  Supplier Part Number 1: 652-SRN2012T-100K
Inductor Power Semi-Shielded Wirewound 10uH 10% 2.5MHz 14Q-Factor Ferrite 0.56A 0.8Ohm DCR 0805; Manufacturer: Bourns; Manufacturer Part Number: SRN2012T-100K; Supplier 1: Mouser; RoHS: No; Stock 1: 19372; Pricing 1: 1=0,28000, 10=0,20600, 50=0,20600, 100=0,16800, 500=0,14000, 1000=0,11800, 2000=0,10000, 4000=0,09900, 10000=0,09400, 24000=0,09100 (USD)
pins: 1, 2

## TCJD226M050R0090E
designator C?, comment 22µf  Supplier Part Number 1: 581-TCJD226M050R090E
Cap Tant Polymer 22uF 50VDC D CASE 20% (7.3 X 4.3 X 2.9mm) SMD 7343-31 0.09 Ohm 125C Automotive T/R; Manufacturer: Kyocera AVX; Manufacturer Part Number: TCJD226M050R0090E; Supplier 1: Mouser; RoHS: Yes; Stock 1: 3975; Pricing 1: 1=3,75000, 10=3,03000, 50=2,65000, 100=2,32000, 500=2,03000, 1000=2,03000, 10000=2,03000 (USD)
footprint CAPPM7343X310N
pins: 1, 2

## TMBT3906,LM
designator Q?  Supplier Part Number 1: 757-TMBT3906LM
TRANSPNP50V0.15ASOT23-3; Manufacturer: Toshiba; Manufacturer Part Number: TMBT3906,LM; Max Collector Current: 150mA; Collector Emitter Voltage (VCEO): 400mV; Max Power Dissipation: 320mW; Transition Frequency: 250MHz; Collector Emitter Breakdown Voltage: 50V; Supplier 1: Mouser; RoHS: Yes; Category: BJTs; Stock 1: 7851; Pricing 1: 1=0,18000, 10=0,16800, 50=0,16800, 100=0,09100, 500=0,05600, 1000=0,03900, 3000=0,02900, 9000=0,02500, 10000=0,02500, 24000=0,02200, 45000=0,01900 (USD); Mount: Surface Mount; Case/Package: TO-236-3; Packaging: Tape and Reel; Max Breakdown Voltage: 50V; ComponentLink1URL: http://www.mouser.com/ds/2/408/TMBT3906_datasheet_en_20150108-736658.pdf?src-supplier=Mouser; ComponentLink1Description: http://www.mouser.com/ds/2/408/TMBT3906_datasheet_en_20150108-736658.pdf?src-supplier=Mouser; ComponentLink2URL: https://toshiba.semicon-storage.com/info/docget.jsp?did=29746&prodName=TMBT3906&src-supplier=Digi-Key; ComponentLink2Description: https://toshiba.semicon-storage.com/info/docget.jsp?did=29746&prodName=TMBT3906&src-supplier=Digi-Key
footprint FP-TMBT3906 (SOT23, 3-Leads, Body 2,90x2,40mm, Pitch 0,95mm, IPC Medium Density)
pins: 1 B, 2 E, 3 C

## ZXTN19055DZTA
designator Q?  Supplier Part Number 1: 522-ZXTN19055DZTA
TRANS NPN 55V 6A SOT89; Manufacturer: Diodes Zetex; Manufacturer Part Number: ZXTN19055DZTA; Max Power Dissipation: 2.1W; Collector Base Voltage (VCBO): 150V; Frequency: 200MHz; Number of Elements: 1; Emitter Base Voltage (VEBO): 7V; Collector Emitter Saturation Voltage: 250mV; Element Configuration: Single; Supplier 1: Mouser; RoHS: Yes; Category: BJTs; Stock 1: 6672; Pricing 1: 1=0,73000, 10=0,64800, 50=0,64800, 100=0,49700, 1000=0,31300, 10000=0,26500 (USD); Mount: Surface Mount; Case/Package: SOT-89; Number of Pins: 4; Weight: 0.001834oz; Min Operating Temperature: -55°C; Max Operating Temperature: 150°C; Collector Emitter Voltage (VCEO): 55V; Max Collector Current: 6A; Packaging: Tape and Reel; Package Quantity: 1000; Transition Frequency: 200MHz; Collector Emitter Breakdown Voltage: 55V; Max Breakdown Voltage: 55V; Polarity: NPN; Power Dissipation: 2.1W; Gain Bandwidth Product: 200MHz; Max Frequency: 200MHz; Voltage Rating (DC): 55V; Current Rating: 6A; Series: -; Collector-emitter Voltage-Max: 250mV; Length: 4.6mm; Width: 2.6mm; Height: 1.6mm; Radiation Hardening: No; REACH SVHC: No SVHC; Lead Free: Lead Free; RoHS Compliant: Yes; ComponentLink1URL: https://datasheet.ciiva.com/11207/zxtn19055dz-11207305.pdf?src-supplier=Avnet; ComponentLink1Description: https://datasheet.ciiva.com/11207/zxtn19055dz-11207305.pdf?src-supplier=Avnet; ComponentLink2URL: https://datasheet.ciiva.com/6359/zxtn19055dz-6359881.pdf?src-supplier=Digi-Key; ComponentLink2Description: https://datasheet.ciiva.com/6359/zxtn19055dz-6359881.pdf?src-supplier=Digi-Key; ComponentLink3URL: https://datasheet.ciiva.com/6359/zxtn19055dz-6359879.pdf?src-supplier=Digi-Key; ComponentLink3Description: https://datasheet.ciiva.com/6359/zxtn19055dz-6359879.pdf?src-supplier=Digi-Key
footprint VREG_AP2204RA-3.3TRG1
pins: 1 B, 2 C, 3 E